# Altium schematic symbol library Upverter Library.SCHLIB: 1 symbol
Pins are listed as number, name and electrical type; pins without a type are passive.

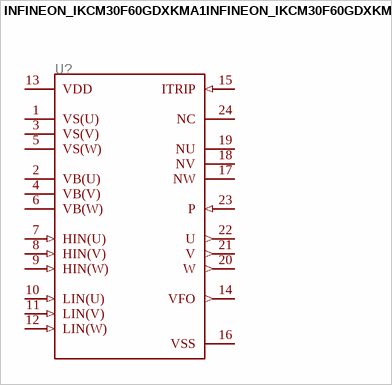
[diagram p0: symbol INFINEON_IKCM30F60GDXKMA1INFINEON_IKCM30F60GDXKMA1_0_0]

## INFINEON_IKCM30F60GDXKMA1INFINEON_IKCM30F60GDXKMA1_0_0
designator U?, comment Trans IGBT Module N-CH 24-Pin MDIP  (value not drawn)
MPN: IKCM30F60GDXKMA1; GateName_1: G$0; SymbolName_1: INFINEON_IKCM30F60GDXKMA1_0_0; DeviceSetName: INFINEON_IKCM30F60GDXKMA1; mfg_package_ident_rev: 0; max_junction_temp: +150°C; temperature_range_high: +125°C; device_class_L3: Motor Drivers; device_class_L1: Integrated Circuits (ICs); max_supply_voltage: 18.5V; prefix: U; temperature_range_low: -40°C; verification_version: 0.0.0.1; MF: Infineon; lead_free: yes; mfg_package_ident: PG-MDIP-24; device_class_L2: Power Management ICs; max_power_dissipation: 79.1W; min_supply_voltage: 13.5V; output_current: 30A; centroid_not_specified: No; switching_frequency: 20kHz; standoff_height: 1.7mm; number_of_outputs: 1; DeviceName: INFINEON_IKCM30F60GDXKMA1_0_0; LibraryName: Upverter Library; Package: INFINEON_IKCM30F60GDXKMA1_0; mouser_description: Motor / Motion / Ignition Controllers & Drivers IFPS MODULES; mouser_part_number: 726-IKCM30F60GDXKMA1; digikey_description: IC IFPS MODULES 24MDIP; digikey_part_number: IKCM30F60GDXKMA1-ND; datasheet: https://www.infineon.com/dgdl/Infineon-IKCM30F60GD-DS-v02_04-EN.pdf?fileId=5546d4624fb7fef2014fcb9626d07936; height: 5.6mm; rohs: yes; mfg_package_ident_date: 0; package: 24-PowerDIP Module
footprint INFINEON_IKCM30F60GDXKMA1_0
pins: 1 VS(U) (power), 2 VB(U) (power), 3 VS(V) (power), 4 VB(V) (power), 5 VS(W) (power), 6 VB(W) (power), 7 HIN(U) (in), 8 HIN(V) (in), 9 HIN(W) (in), 10 LIN(U) (in), 11 LIN(V) (in), 12 LIN(W) (in), 13 VDD (power), 14 VFO (out), 15 ITRIP (in), 16 VSS (power), 17 NW, 18 NV, 19 NU, 20 W (out), 21 V (out), 22 U (out), 23 P (in), 24 NC